# Altium schematic symbol library 220p _ 1000V.Schlib: 1 symbol
Pins are listed as number, name and electrical type; pins without a type are passive.

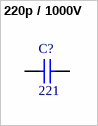
[diagram p0: symbol 220p / 1000V]

## 220p / 1000V
designator C?, comment 221
220p / 1000V
pins: 1, 2